# EAGLE library part TFWF1 (library added_parts)
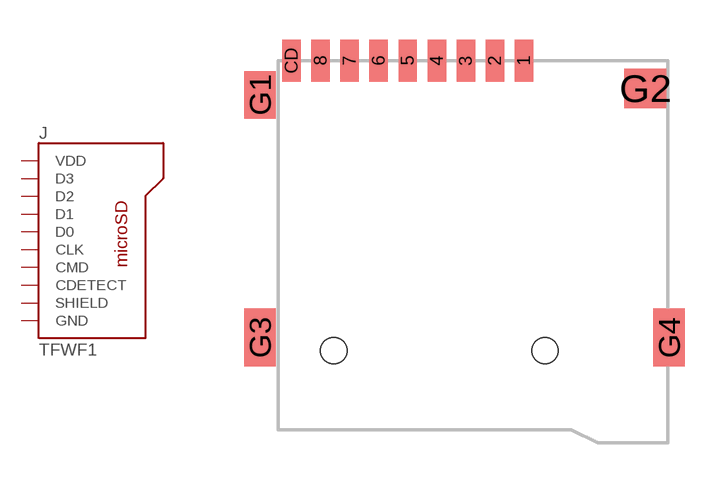
[diagram p24: symbol with the pads of TFWF1; footprint TFWF1]

Designator prefix J

## TFWF1  [TFWF1]
1  D2
2  D3
3  CMD  in
4  VDD  pwr
5  CLK  in
6  GND  pwr
7  D0
8  D1
CD  CDETECT  out
G1  SHIELD  pas
G2  SHIELD  pas
G3  SHIELD  pas
G4  SHIELD  pas

## Footprint TFWF1 (pad centres in mm)
smd 0.7 x 1.6: 1 7.2,11; 2 6.1,11; 3 5,11; 4 3.9,11; 5 2.8,11; 6 1.7,11; 7 0.6,11; 8 -0.5,11; CD -1.6,11
smd 1.2 x 1.8: G1 -2.8,9.7
smd 1.6 x 1.5: G2 11.8,9.95
smd 1.2 x 2.2: G3 -2.8,0.5; G4 12.7,0.5
hole 1 at 0,0
hole 1 at 8,0